# Altium schematic symbol library SM12B-NSHSS-TB.SchLib: 1 symbol
Pins are listed as number, name and electrical type; pins without a type are passive.

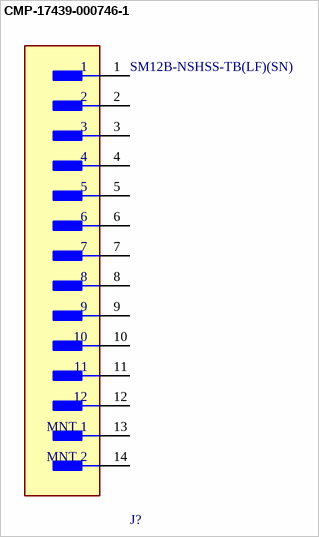
[diagram p0: symbol CMP-17439-000746-1]

## CMP-17439-000746-1
designator J?, comment SM12B-NSHSS-TB(LF)(SN)
CONN HEADER SMD R/A 12POS 1MM; Pitch: 0.039inch; Number of Positions: 12; Connector Type: Outer Shroud Contact; Contact Plating: Tin; Fastening Type: Latch; Contact Type: Outer Shroud Contact; Number of Rows: 1; Termination: Solder; Series: NSH; Packaging: Cut Tape; Color: Natural; Mount: Surface Mount
footprint FP-SM12B-NSHSS-TB_LF_SN-MFG
pins: 1, 2, 3, 4, 5, 6, 7, 8, 9, 10, 11, 12, 13 MNT 1, 14 MNT 2